# Altium integrated library Microchip PIC18.IntLib: 1897 symbols (part 42 of 110)
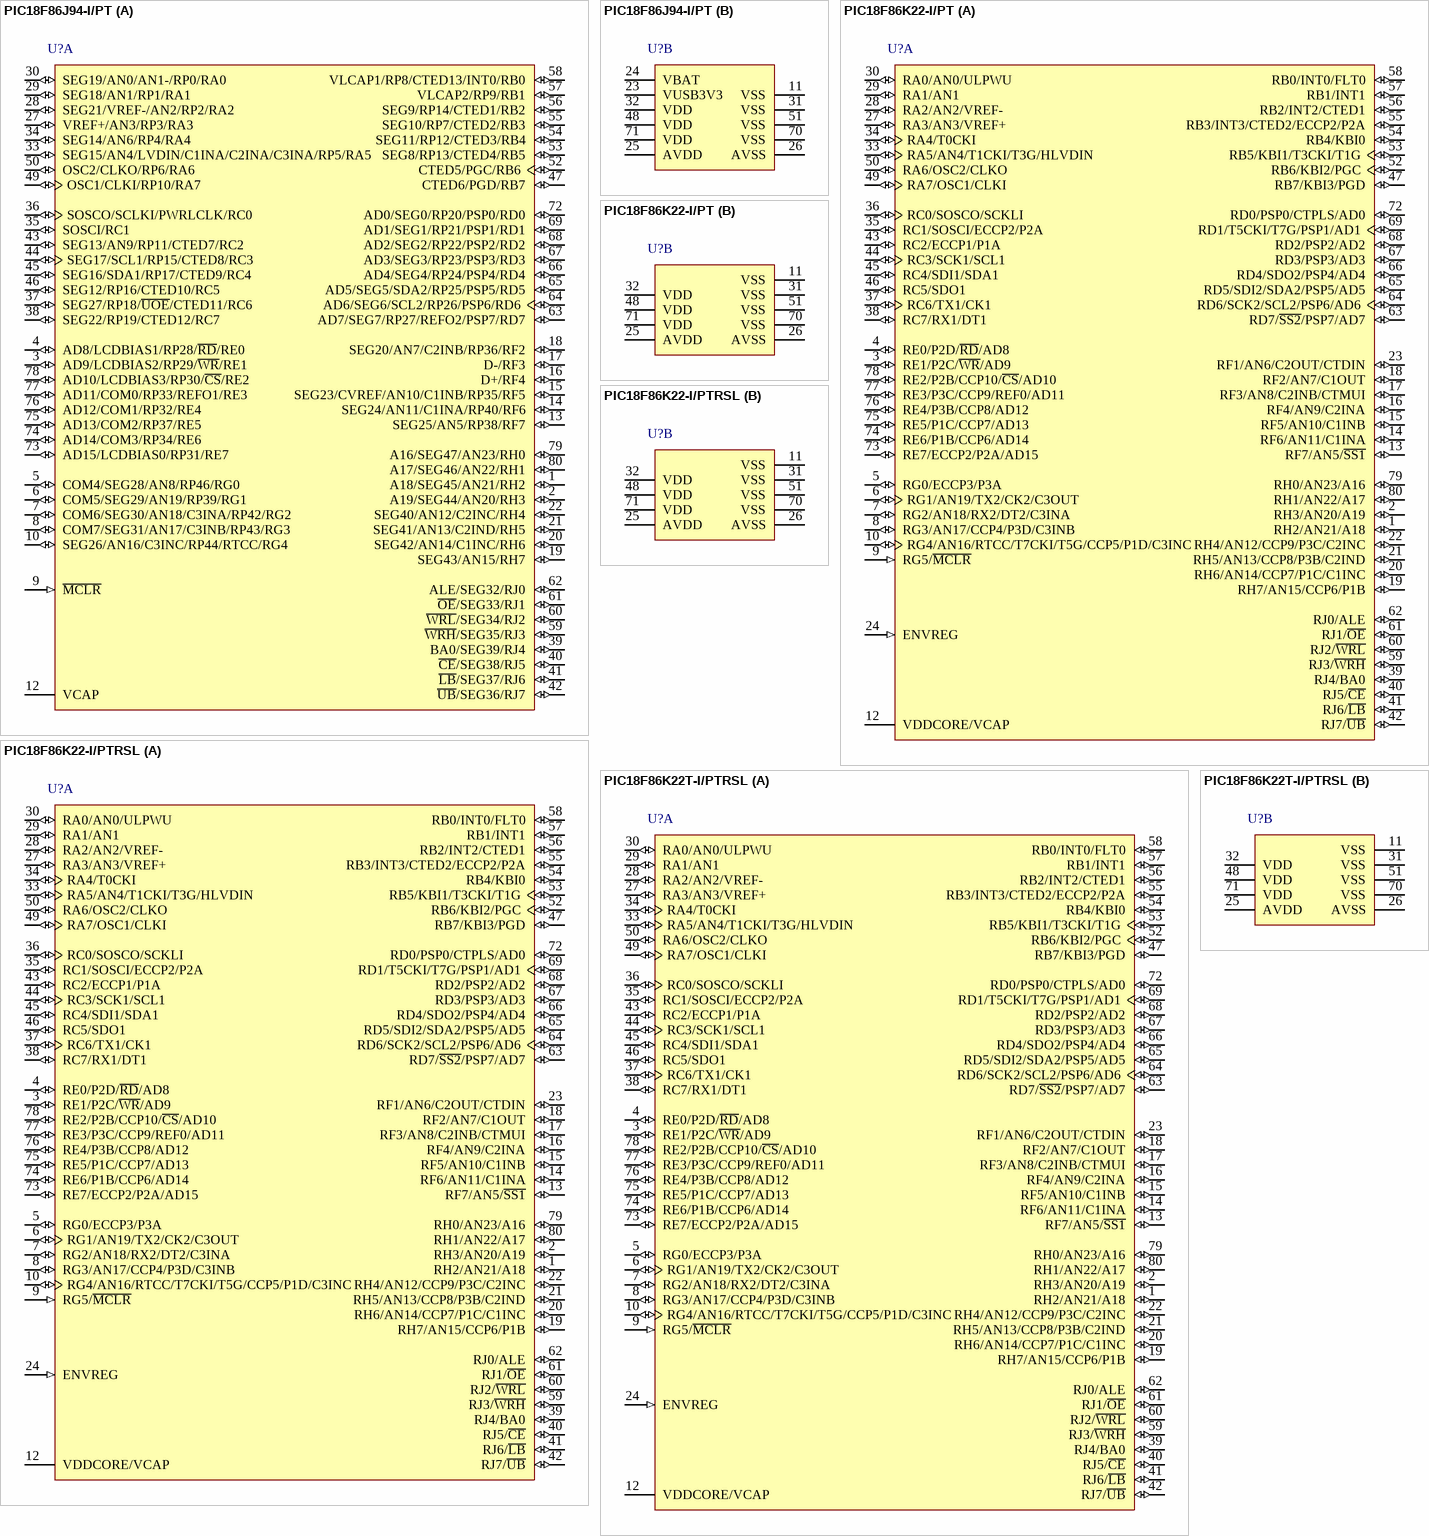
[diagram p343: symbols PIC18F86J94-I/PT to PIC18F86K22T-I/PTRSL]

## PIC18F86K22-I/PT
designator U?
High-Performance, 1-Mbit Enhanced Flash MCU with 12-Bit A/D and nanoWatt XLP Technology, 64 MHz, 69 I/O, -40 to 85 degC, 80-pin TQFP (PT80), Tray; Manufacturer: Microchip; PartNumber: PIC18F86K22-I/PT; # of A/D Channels: 24; Digital Communication: 2 -A/E/USART, 2 -MSSP(SPI/I2C); EEPROM Data Memory (bytes): 1024; I/O Pins: 69; Internal Oscillator: 16 MHz, 31 kHz; Max. CPU Speed MHz: 64; Operation Voltage Range: 1.8V - 5.5V; Program Memory KWords: 32; RAM: 3862; Timers: 6 - 8-bit, 5 - 16-bit; DatasheetVersion: Rev. D; PackageVersion: C04-092B, 12/2012; PackageReference: TQFP-PT80; PackageDescription: 80-Lead Plastic Thin Quad FlatPack, 12 x 12 mm Body, 0.5 mm Pitch; Supplier 1: Digi-Key; Supplier Part Number 1: PIC18F86K22-I/PT-ND; Supplier 2: Farnell; Supplier Part Number 2: 1770692MPKG; Supplier 3: Farnell; Supplier Part Number 3: 1770692; Supplier 4: Mouser; Supplier Part Number 4: 579-PIC18F86K22-I/PT; Memory Type: Flash; Packing: TRAY; Program Memory KBytes: 64; RoHS: TRUE; Mounting Technology: Surface Mount; ComponentLink1Description: Datasheet; ComponentLink1URL: http://ww1.microchip.com/downloads/en/DeviceDoc/39960d.pdf; ComponentLink2Description: Package Specification; ComponentLink2URL: http://www.microchip.com/stellent/groups/techpub_sg/documents/packagingspec/en012702.pdf; ComponentLink3Description: URL Link1; ComponentLink3URL: Product URL:http://www.microchip.com/datasheet/PIC18F86K22
footprint MCHP-TQFP-PT80_N (QFN, 80-Leads, Body 12x12mm, Pitch 0.5mm, IPC Medium Density)
footprint MCHP-TQFP-PT80_L (QFN, 80-Leads, Body 12x12mm, Pitch 0.5mm, IPC High Density)
footprint MCHP-TQFP-PT80_M (QFN, 80-Leads, Body 12x12mm, Pitch 0.5mm, IPC Low Density)
part A pins: 1 RH2/AN21/A18 (io), 2 RH3/AN20/A19 (io), 3 RE1/P2C/~{WR}/AD9 (io), 4 RE0/P2D/~{RD}/AD8 (io), 5 RG0/ECCP3/P3A (io), 6 RG1/AN19/TX2/CK2/C3OUT (io), 7 RG2/AN18/RX2/DT2/C3INA (io), 8 RG3/AN17/CCP4/P3D/C3INB (io), 9 RG5/~{MCLR} (in), 10 RG4/AN16/RTCC/T7CKI/T5G/CCP5/P1D/C3INC (io), 12 VDDCORE/VCAP (power), 13 RF7/AN5/~{SS1} (io), 14 RF6/AN11/C1INA (io), 15 RF5/AN10/C1INB (io), 16 RF4/AN9/C2INA (io), 17 RF3/AN8/C2INB/CTMUI (io), 18 RF2/AN7/C1OUT (io), 19 RH7/AN15/CCP6/P1B (io), 20 RH6/AN14/CCP7/P1C/C1INC (io), 21 RH5/AN13/CCP8/P3B/C2IND (io), 22 RH4/AN12/CCP9/P3C/C2INC (io), 23 RF1/AN6/C2OUT/CTDIN (io), 24 ENVREG (in) "Enable for on-chip voltage regulator.", 27 RA3/AN3/VREF+ (io), 28 RA2/AN2/VREF- (io), 29 RA1/AN1 (io), 30 RA0/AN0/ULPWU (io), 33 RA5/AN4/T1CKI/T3G/HLVDIN (io), 34 RA4/T0CKI (io), 35 RC1/SOSCI/ECCP2/P2A (io), 36 RC0/SOSCO/SCKLI (io), 37 RC6/TX1/CK1 (io), 38 RC7/RX1/DT1 (io), 39 RJ4/BA0 (io), 40 RJ5/~{CE} (io), 41 RJ6/~{LB} (io), 42 RJ7/~{UB} (io), 43 RC2/ECCP1/P1A (io), 44 RC3/SCK1/SCL1 (io), 45 RC4/SDI1/SDA1 (io), 46 RC5/SDO1 (io), 47 RB7/KBI3/PGD (io), 49 RA7/OSC1/CLKI (io), 50 RA6/OSC2/CLKO (io), 52 RB6/KBI2/PGC (io), 53 RB5/KBI1/T3CKI/T1G (io), 54 RB4/KBI0 (io), 55 RB3/INT3/CTED2/ECCP2/P2A (io), 56 RB2/INT2/CTED1 (io), 57 RB1/INT1 (io), 58 RB0/INT0/FLT0 (io), 59 RJ3/~{WRH} (io), 60 RJ2/~{WRL} (io), 61 RJ1/~{OE} (io), 62 RJ0/ALE (io), 63 RD7/~{SS2}/PSP7/AD7 (io), 64 RD6/SCK2/SCL2/PSP6/AD6 (io), 65 RD5/SDI2/SDA2/PSP5/AD5 (io), 66 RD4/SDO2/PSP4/AD4 (io), 67 RD3/PSP3/AD3 (io), 68 RD2/PSP2/AD2 (io), 69 RD1/T5CKI/T7G/PSP1/AD1 (io), 72 RD0/PSP0/CTPLS/AD0 (io), 73 RE7/ECCP2/P2A/AD15 (io), 74 RE6/P1B/CCP6/AD14 (io), 75 RE5/P1C/CCP7/AD13 (io), 76 RE4/P3B/CCP8/AD12 (io), 77 RE3/P3C/CCP9/REF0/AD11 (io), 78 RE2/P2B/CCP10/~{CS}/AD10 (io), 79 RH0/AN23/A16 (io), 80 RH1/AN22/A17 (io)
part B pins: 11 VSS (power) "Ground reference for logic and I/O pins.", 25 AVDD (power) "Positive supply for analog modules.", 26 AVSS (power) "Ground reference for analog modules.", 31 VSS (power) "Ground reference for logic and I/O pins.", 32 VDD (power) "Positive supply for logic and I/O pins.", 48 VDD (power) "Positive supply for logic and I/O pins.", 51 VSS (power) "Ground reference for logic and I/O pins.", 70 VSS (power) "Ground reference for logic and I/O pins.", 71 VDD (power) "Positive supply for logic and I/O pins."

## PIC18F86K22-I/PTRSL
designator U?
High-Performance, 1-Mbit Enhanced Flash MCU with 12-Bit A/D and nanoWatt XLP Technology, 64 MHz, 69 I/O, -40 to 85 degC, 80-pin TQFP (PT80), Tray; Manufacturer: Microchip; PartNumber: PIC18F86K22-I/PTRSL; # of A/D Channels: 24; Digital Communication: 2 -A/E/USART, 2 -MSSP(SPI/I2C); EEPROM Data Memory (bytes): 1024; I/O Pins: 69; Internal Oscillator: 16 MHz, 31 kHz; Max. CPU Speed MHz: 64; Operation Voltage Range: 1.8V - 5.5V; Program Memory KWords: 32; RAM: 3862; Timers: 6 - 8-bit, 5 - 16-bit; DatasheetVersion: Rev. D; PackageVersion: C04-092B, 12/2012; PackageReference: TQFP-PT80; PackageDescription: 80-Lead Plastic Thin Quad FlatPack, 12 x 12 mm Body, 0.5 mm Pitch; Supplier 1: Digi-Key; Supplier Part Number 1: PIC18F86K22-I/PTRSL-ND; Supplier 2: Farnell; Supplier Part Number 2: 1841478MPKG; Supplier 3: Farnell; Supplier Part Number 3: 1841478; Supplier 4: Newark; Supplier Part Number 4: 25R8358; Supplier 5: Mouser; Supplier Part Number 5: 579-PIC18F86K22IPTRS; Memory Type: Flash; Packing: TRAY; Program Memory KBytes: 64; RoHS: TRUE; Mounting Technology: Surface Mount; ComponentLink1Description: Datasheet; ComponentLink1URL: http://ww1.microchip.com/downloads/en/DeviceDoc/39960d.pdf; ComponentLink2Description: Package Specification; ComponentLink2URL: http://www.microchip.com/stellent/groups/techpub_sg/documents/packagingspec/en012702.pdf; ComponentLink3Description: URL Link1; ComponentLink3URL: Product URL:http://www.microchip.com/datasheet/PIC18F86K22
footprint MCHP-TQFP-PT80_N (QFN, 80-Leads, Body 12x12mm, Pitch 0.5mm, IPC Medium Density)
footprint MCHP-TQFP-PT80_L (QFN, 80-Leads, Body 12x12mm, Pitch 0.5mm, IPC High Density)
footprint MCHP-TQFP-PT80_M (QFN, 80-Leads, Body 12x12mm, Pitch 0.5mm, IPC Low Density)
part A pins: 1 RH2/AN21/A18 (io), 2 RH3/AN20/A19 (io), 3 RE1/P2C/~{WR}/AD9 (io), 4 RE0/P2D/~{RD}/AD8 (io), 5 RG0/ECCP3/P3A (io), 6 RG1/AN19/TX2/CK2/C3OUT (io), 7 RG2/AN18/RX2/DT2/C3INA (io), 8 RG3/AN17/CCP4/P3D/C3INB (io), 9 RG5/~{MCLR} (in), 10 RG4/AN16/RTCC/T7CKI/T5G/CCP5/P1D/C3INC (io), 12 VDDCORE/VCAP (power), 13 RF7/AN5/~{SS1} (io), 14 RF6/AN11/C1INA (io), 15 RF5/AN10/C1INB (io), 16 RF4/AN9/C2INA (io), 17 RF3/AN8/C2INB/CTMUI (io), 18 RF2/AN7/C1OUT (io), 19 RH7/AN15/CCP6/P1B (io), 20 RH6/AN14/CCP7/P1C/C1INC (io), 21 RH5/AN13/CCP8/P3B/C2IND (io), 22 RH4/AN12/CCP9/P3C/C2INC (io), 23 RF1/AN6/C2OUT/CTDIN (io), 24 ENVREG (in) "Enable for on-chip voltage regulator.", 27 RA3/AN3/VREF+ (io), 28 RA2/AN2/VREF- (io), 29 RA1/AN1 (io), 30 RA0/AN0/ULPWU (io), 33 RA5/AN4/T1CKI/T3G/HLVDIN (io), 34 RA4/T0CKI (io), 35 RC1/SOSCI/ECCP2/P2A (io), 36 RC0/SOSCO/SCKLI (io), 37 RC6/TX1/CK1 (io), 38 RC7/RX1/DT1 (io), 39 RJ4/BA0 (io), 40 RJ5/~{CE} (io), 41 RJ6/~{LB} (io), 42 RJ7/~{UB} (io), 43 RC2/ECCP1/P1A (io), 44 RC3/SCK1/SCL1 (io), 45 RC4/SDI1/SDA1 (io), 46 RC5/SDO1 (io), 47 RB7/KBI3/PGD (io), 49 RA7/OSC1/CLKI (io), 50 RA6/OSC2/CLKO (io), 52 RB6/KBI2/PGC (io), 53 RB5/KBI1/T3CKI/T1G (io), 54 RB4/KBI0 (io), 55 RB3/INT3/CTED2/ECCP2/P2A (io), 56 RB2/INT2/CTED1 (io), 57 RB1/INT1 (io), 58 RB0/INT0/FLT0 (io), 59 RJ3/~{WRH} (io), 60 RJ2/~{WRL} (io), 61 RJ1/~{OE} (io), 62 RJ0/ALE (io), 63 RD7/~{SS2}/PSP7/AD7 (io), 64 RD6/SCK2/SCL2/PSP6/AD6 (io), 65 RD5/SDI2/SDA2/PSP5/AD5 (io), 66 RD4/SDO2/PSP4/AD4 (io), 67 RD3/PSP3/AD3 (io), 68 RD2/PSP2/AD2 (io), 69 RD1/T5CKI/T7G/PSP1/AD1 (io), 72 RD0/PSP0/CTPLS/AD0 (io), 73 RE7/ECCP2/P2A/AD15 (io), 74 RE6/P1B/CCP6/AD14 (io), 75 RE5/P1C/CCP7/AD13 (io), 76 RE4/P3B/CCP8/AD12 (io), 77 RE3/P3C/CCP9/REF0/AD11 (io), 78 RE2/P2B/CCP10/~{CS}/AD10 (io), 79 RH0/AN23/A16 (io), 80 RH1/AN22/A17 (io)
part B pins: 11 VSS (power) "Ground reference for logic and I/O pins.", 25 AVDD (power) "Positive supply for analog modules.", 26 AVSS (power) "Ground reference for analog modules.", 31 VSS (power) "Ground reference for logic and I/O pins.", 32 VDD (power) "Positive supply for logic and I/O pins.", 48 VDD (power) "Positive supply for logic and I/O pins.", 51 VSS (power) "Ground reference for logic and I/O pins.", 70 VSS (power) "Ground reference for logic and I/O pins.", 71 VDD (power) "Positive supply for logic and I/O pins."

## PIC18F86K22T-I/PTRSL
designator U?
High-Performance, 1-Mbit Enhanced Flash MCU with 12-Bit A/D and nanoWatt XLP Technology, 64 MHz, 69 I/O, -40 to 85 degC, 80-pin TQFP (PT80), Tape and Reel; Manufacturer: Microchip; PartNumber: PIC18F86K22T-I/PTRSL; # of A/D Channels: 24; Digital Communication: 2 -A/E/USART, 2 -MSSP(SPI/I2C); EEPROM Data Memory (bytes): 1024; I/O Pins: 69; Internal Oscillator: 16 MHz, 31 kHz; Max. CPU Speed MHz: 64; Operation Voltage Range: 1.8V - 5.5V; Packing: T/R; Program Memory KWords: 32; RAM: 3862; Timers: 6 - 8-bit, 5 - 16-bit; DatasheetVersion: Rev. D; PackageVersion: C04-092B, 12/2012; PackageReference: TQFP-PT80; PackageDescription: 80-Lead Plastic Thin Quad FlatPack, 12 x 12 mm Body, 0.5 mm Pitch; Supplier 1: Digi-Key; Supplier Part Number 1: PIC18F86K22T-I/PTRSL-ND; Supplier 2: Mouser; Supplier Part Number 2: 579-PIC18F86K22TIPTR; Memory Type: Flash; Program Memory KBytes: 64; RoHS: TRUE; Mounting Technology: Surface Mount; ComponentLink1Description: Datasheet; ComponentLink1URL: http://ww1.microchip.com/downloads/en/DeviceDoc/39960d.pdf; ComponentLink2Description: Package Specification; ComponentLink2URL: http://www.microchip.com/stellent/groups/techpub_sg/documents/packagingspec/en012702.pdf; ComponentLink3Description: URL Link1; ComponentLink3URL: Product URL:http://www.microchip.com/datasheet/PIC18F86K22
footprint MCHP-TQFP-PT80_N (QFN, 80-Leads, Body 12x12mm, Pitch 0.5mm, IPC Medium Density)
footprint MCHP-TQFP-PT80_L (QFN, 80-Leads, Body 12x12mm, Pitch 0.5mm, IPC High Density)
footprint MCHP-TQFP-PT80_M (QFN, 80-Leads, Body 12x12mm, Pitch 0.5mm, IPC Low Density)
part A pins: 1 RH2/AN21/A18 (io), 2 RH3/AN20/A19 (io), 3 RE1/P2C/~{WR}/AD9 (io), 4 RE0/P2D/~{RD}/AD8 (io), 5 RG0/ECCP3/P3A (io), 6 RG1/AN19/TX2/CK2/C3OUT (io), 7 RG2/AN18/RX2/DT2/C3INA (io), 8 RG3/AN17/CCP4/P3D/C3INB (io), 9 RG5/~{MCLR} (in), 10 RG4/AN16/RTCC/T7CKI/T5G/CCP5/P1D/C3INC (io), 12 VDDCORE/VCAP (power), 13 RF7/AN5/~{SS1} (io), 14 RF6/AN11/C1INA (io), 15 RF5/AN10/C1INB (io), 16 RF4/AN9/C2INA (io), 17 RF3/AN8/C2INB/CTMUI (io), 18 RF2/AN7/C1OUT (io), 19 RH7/AN15/CCP6/P1B (io), 20 RH6/AN14/CCP7/P1C/C1INC (io), 21 RH5/AN13/CCP8/P3B/C2IND (io), 22 RH4/AN12/CCP9/P3C/C2INC (io), 23 RF1/AN6/C2OUT/CTDIN (io), 24 ENVREG (in) "Enable for on-chip voltage regulator.", 27 RA3/AN3/VREF+ (io), 28 RA2/AN2/VREF- (io), 29 RA1/AN1 (io), 30 RA0/AN0/ULPWU (io), 33 RA5/AN4/T1CKI/T3G/HLVDIN (io), 34 RA4/T0CKI (io), 35 RC1/SOSCI/ECCP2/P2A (io), 36 RC0/SOSCO/SCKLI (io), 37 RC6/TX1/CK1 (io), 38 RC7/RX1/DT1 (io), 39 RJ4/BA0 (io), 40 RJ5/~{CE} (io), 41 RJ6/~{LB} (io), 42 RJ7/~{UB} (io), 43 RC2/ECCP1/P1A (io), 44 RC3/SCK1/SCL1 (io), 45 RC4/SDI1/SDA1 (io), 46 RC5/SDO1 (io), 47 RB7/KBI3/PGD (io), 49 RA7/OSC1/CLKI (io), 50 RA6/OSC2/CLKO (io), 52 RB6/KBI2/PGC (io), 53 RB5/KBI1/T3CKI/T1G (io), 54 RB4/KBI0 (io), 55 RB3/INT3/CTED2/ECCP2/P2A (io), 56 RB2/INT2/CTED1 (io), 57 RB1/INT1 (io), 58 RB0/INT0/FLT0 (io), 59 RJ3/~{WRH} (io), 60 RJ2/~{WRL} (io), 61 RJ1/~{OE} (io), 62 RJ0/ALE (io), 63 RD7/~{SS2}/PSP7/AD7 (io), 64 RD6/SCK2/SCL2/PSP6/AD6 (io), 65 RD5/SDI2/SDA2/PSP5/AD5 (io), 66 RD4/SDO2/PSP4/AD4 (io), 67 RD3/PSP3/AD3 (io), 68 RD2/PSP2/AD2 (io), 69 RD1/T5CKI/T7G/PSP1/AD1 (io), 72 RD0/PSP0/CTPLS/AD0 (io), 73 RE7/ECCP2/P2A/AD15 (io), 74 RE6/P1B/CCP6/AD14 (io), 75 RE5/P1C/CCP7/AD13 (io), 76 RE4/P3B/CCP8/AD12 (io), 77 RE3/P3C/CCP9/REF0/AD11 (io), 78 RE2/P2B/CCP10/~{CS}/AD10 (io), 79 RH0/AN23/A16 (io), 80 RH1/AN22/A17 (io)
part B pins: 11 VSS (power) "Ground reference for logic and I/O pins.", 25 AVDD (power) "Positive supply for analog modules.", 26 AVSS (power) "Ground reference for analog modules.", 31 VSS (power) "Ground reference for logic and I/O pins.", 32 VDD (power) "Positive supply for logic and I/O pins.", 48 VDD (power) "Positive supply for logic and I/O pins.", 51 VSS (power) "Ground reference for logic and I/O pins.", 70 VSS (power) "Ground reference for logic and I/O pins.", 71 VDD (power) "Positive supply for logic and I/O pins."

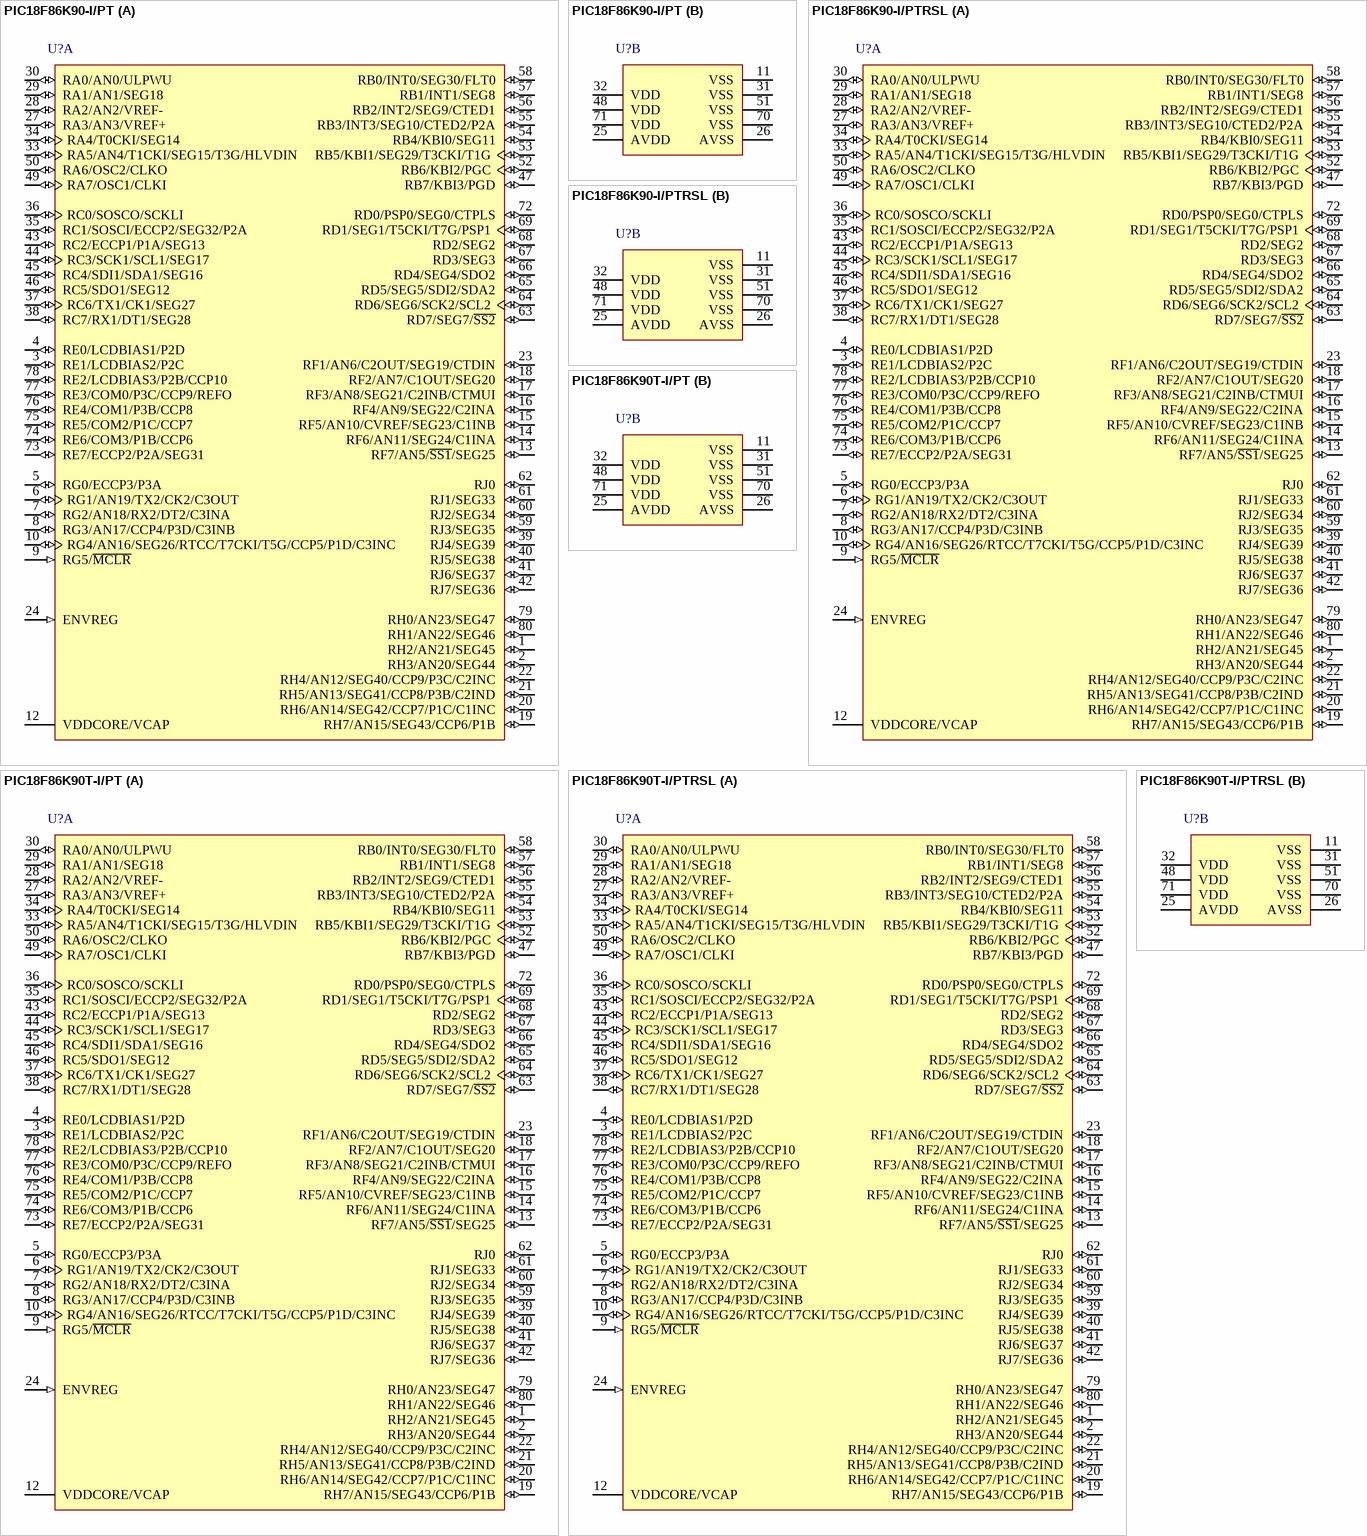
[diagram p76: symbols PIC18F86K90-I/PT to PIC18F86K90T-I/PTRSL]